# EAGLE library part DE4* (library radu-collected)
Kingbright DE4 LED light bar series
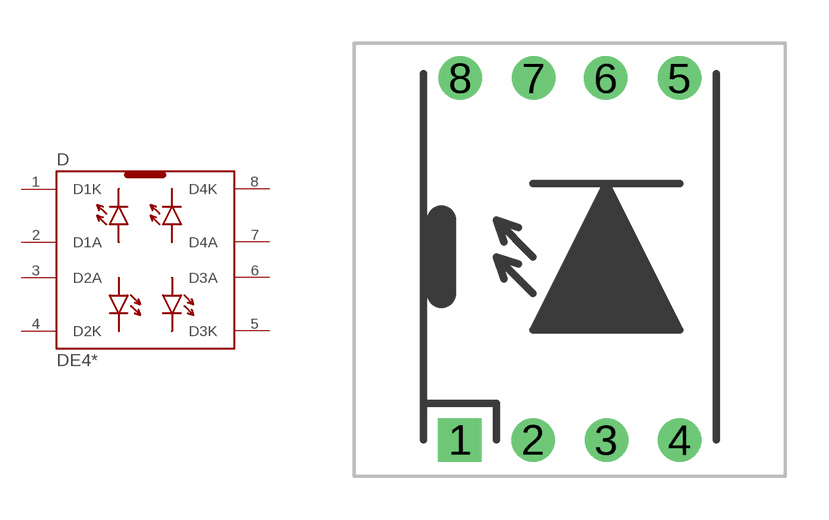
[diagram p0: symbol with the pads of DIP8_KINGBRIGHT_DE4; footprint DIP8_KINGBRIGHT_DE4]

Designator prefix D

## DE4CGKD, DE4GD, DE4ID, DE4SEKD, DE4SGD, DE4SRD, DE4SURKD, DE4SYKD, DE4YD  [DIP8_KINGBRIGHT_DE4]
1  D1K  out
2  D1A  in
3  D2A  in
4  D2K  out
5  D3K  out
6  D3A  in
7  D4A  in
8  D4K  out

## Footprint DIP8_KINGBRIGHT_DE4 (pad centres in mm)
Through-Hole, Dual-In-Line, 8 pin, Kingbright DE4 This package is for Kingbright DE4 series LED lightbars Taken from the datasheet <http://www.kingbrightusa.com/images/catalog/SPEC/DE4ID.pdf>.
drill 1 square: 1 -3.81,-6.35
drill 1: 2 -1.27,-6.35; 3 1.27,-6.35; 4 3.81,-6.35; 5 3.8,6.2; 6 1.25,6.2; 7 -1.25,6.2; 8 -3.8,6.2